# Altium schematic symbol library AP2114HA-3.3TRG1.SchLib: 1 symbol
Pins are listed as number, name and electrical type; pins without a type are passive.

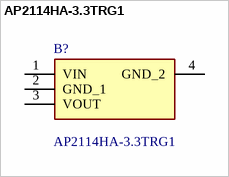
[diagram p0: symbol AP2114HA-3.3TRG1]

## AP2114HA-3.3TRG1
designator B?
Linear Voltage Regulator IC Positive Fixed 1 Output 1A SOT-223-3; Manufacturer_Name: Diodes Incorporated; Geometry.Height: 1.8mm; Mouser Part Number: 621-AP2114HA-3.3TRG1; Mouser Price/Stock: https://www.mouser.co.uk/ProductDetail/Diodes-Incorporated/AP2114HA-3.3TRG1?qs=M%2FOdCRO8QQ3KWhA9Gt6VoQ%3D%3D; Manufacturer_Part_Number: AP2114HA-3.3TRG1; Datasheet Link: https://www.diodes.com//assets/Datasheets/AP2114.pdf
footprint SOT230P700X180-4N
pins: 1 VIN, 2 GND_1, 3 VOUT, 4 GND_2